# Altium footprint library 28pins_Project_V1I1.PcbLib: 29 footprints (part 2 of 2)
Each footprint in its own frame and in the unit in brackets; x right, y up, seen from the top. Pads: shape width x height; smd on the part's side, far side on the other; paste and mask are expansions set on the pad; w line width, h text height; cw(c..) or ccw(c..) is an arc to the next point about the centre after c.
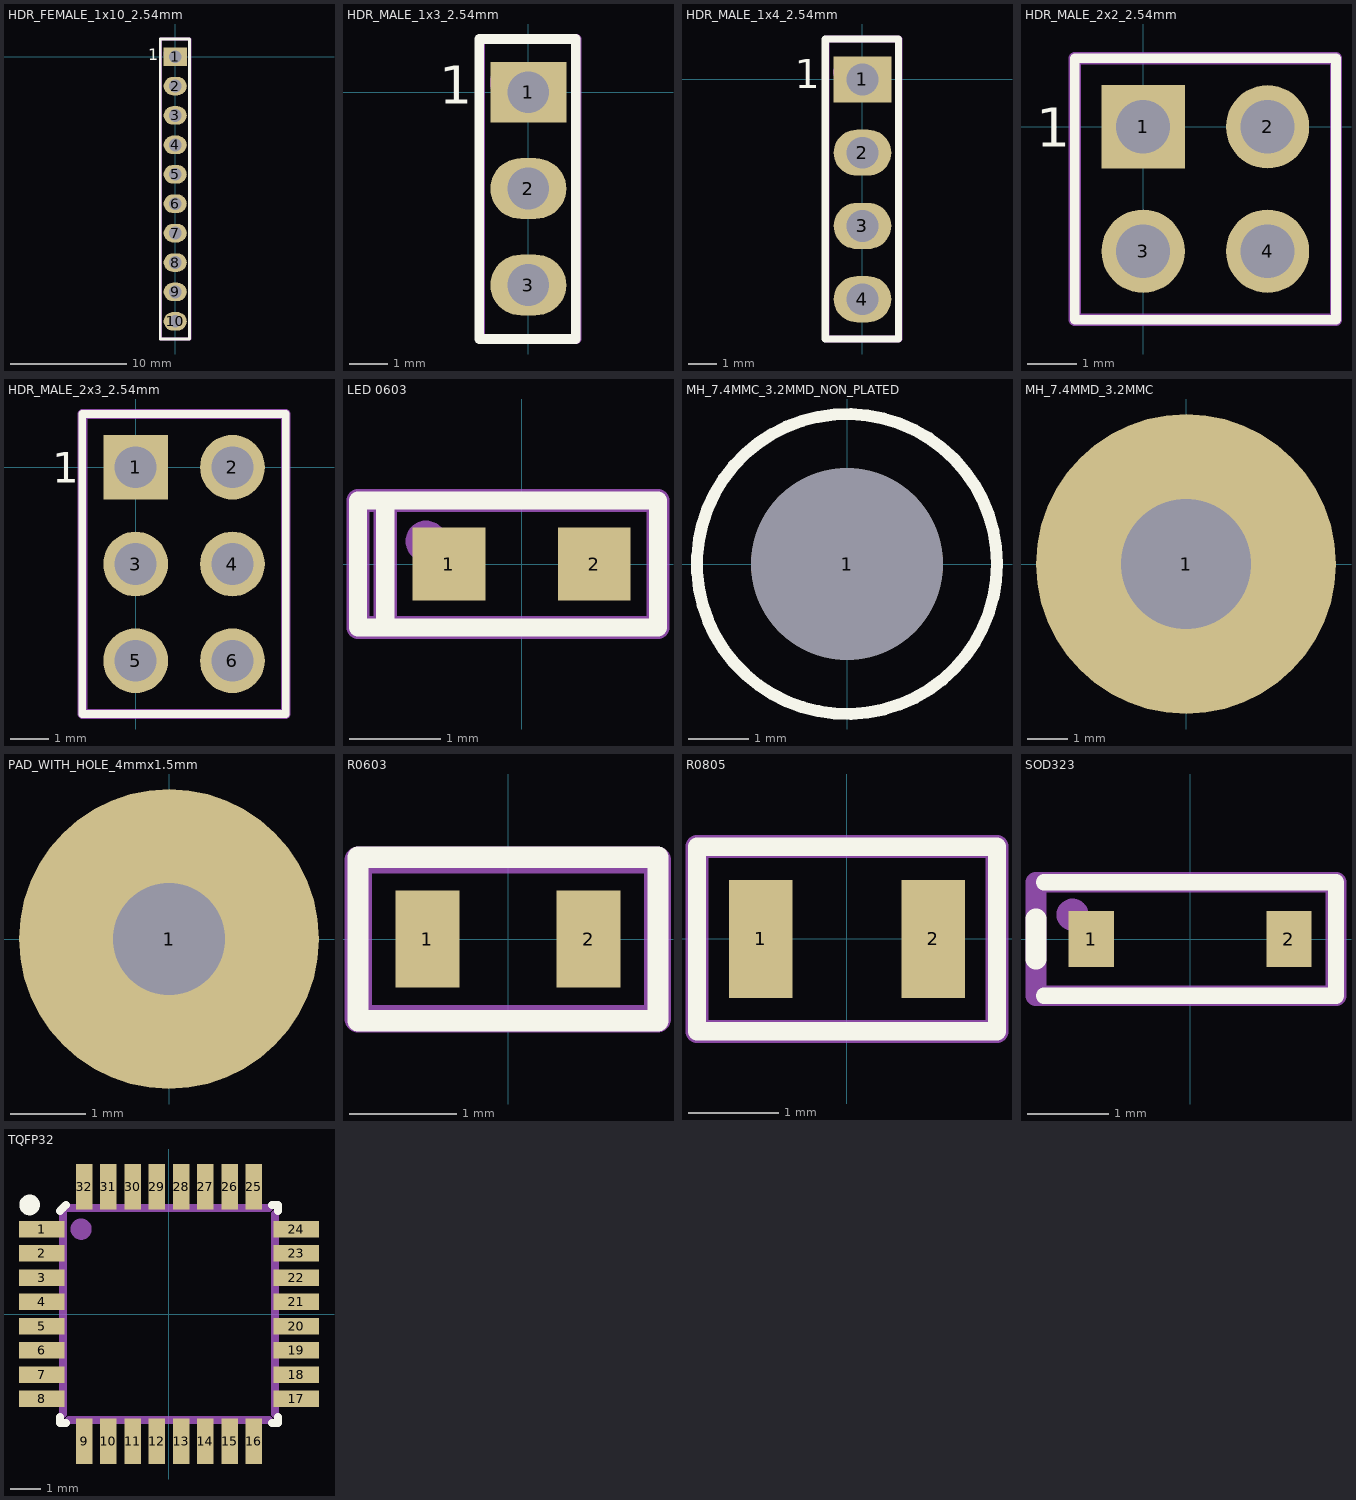
[diagram p1: the footprints below, top view; thin cyan lines are the x and y axes]

## HDR_FEMALE_1x10_2.54mm [mm]
pads (10):
  rect 2x1.6 hole 1.1: 1(0,0)
  oval 2x1.6 hole 1.1: 2(0,-2.54) 3(0,-5.08) 4(0,-7.62) 5(0,-10.16) 6(0,-12.7) 7(0,-15.24) 8(0,-17.78) 9(0,-20.32) 10(0,-22.86)
Top Overlay:
  lines w0.254: -1.29,-24.384 1.25,-24.384 1.25,1.524 -1.29,1.524 -1.29,-24.384
  text "1" at -2.34,-0.308 h1
Mechanical 29:
  circle w0.508: c-0.508,0.254 r0.254
  lines w0.254: -1.27,-24.384 1.27,-24.384 1.27,1.524 -1.27,1.524 -1.27,-24.384
  text ".Designator" at 0.508,-16.51 h1.52
3D body "m20-7821046_asm.stp": height 8.51, standoff -2.99, extent -1.27,-24.384 1.23,1.416

## HDR_MALE_1x3_2.54mm [mm]
pads (3):
  rect 2x1.6 hole 1.1: 1(0,0)
  oval 2x1.6 hole 1.1: 2(0,-2.54) 3(0,-5.08)
Top Overlay:
  lines w0.254: -1.29,-6.5 1.25,-6.5 1.25,1.4 -1.29,1.4 -1.29,-6.5
  text "1" at -2.34,-0.308 h1
Mechanical 29:
  circle w0.508: c-0.508,0.254 r0.254
  lines w0.254: -1.27,-6.5 1.27,-6.5 1.27,1.4 -1.27,1.4 -1.27,-6.5
  text ".Designator" at 0.838,-6.246 h1.52
3D body "m20-9990346_asm.stp": height 5.59, standoff -6.09, extent -1.27,-6.348 1.27,1.272

## HDR_MALE_1x4_2.54mm [mm]
pads (4):
  rect 2x1.6 hole 1.1: 1(0,0)
  oval 2x1.6 hole 1.1: 2(0,-2.54) 3(0,-5.08) 4(0,-7.62)
Top Overlay:
  lines w0.254: -1.29,-9 -1.29,1.4 1.25,1.4 1.25,-9 -1.29,-9
  text "1" at -2.34,-0.308 h1
Mechanical 29:
  circle w0.508: c-0.508,0.254 r0.254
  lines w0.254: -1.27,-9 -1.27,1.4 1.27,1.4 1.27,-9 -1.27,-9
  text ".Designator" at 0.538,-8.546 h1.52
3D body "m20-9990446_asm.stp": height 8.65, standoff -3.03, extent -1.27,-8.86 1.27,1.3

## HDR_MALE_2x2_2.54mm [mm]
pads (4):
  rect 1.7x1.7 hole 1.1: 1(0,0)
  round 1.7 hole 1.1: 2(2.54,0) 3(0,-2.54) 4(2.54,-2.54)
Top Overlay:
  lines w0.2: -1.397,-3.937 3.937,-3.937 3.937,1.397 -1.397,1.397 -1.397,-3.937
  text "1" at -2.186,-0.408 h0.8
Mechanical 29:
  circle w0.4: c-0.381,0.381 r0.254
  lines w0.254: -1.397,-3.937 -1.397,1.397 3.937,1.397 3.937,-3.937 -1.397,-3.937
  text ".Designator" at 1.828,-3.326 h1.52
3D body "961204-6404-XX.stp": height 7.5, standoff -3.8, extent -1.27,-3.77 3.81,1.23

## HDR_MALE_2x3_2.54mm [mm]
pads (6):
  rect 1.7x1.7 hole 1.1: 1(0,0)
  round 1.7 hole 1.1: 2(2.54,0) 3(0,-2.54) 4(2.54,-2.54) 5(0,-5.08) 6(2.54,-5.08)
Top Overlay:
  lines w0.2: -1.397,-6.477 -1.397,1.397 3.937,1.397 3.937,-6.477 -1.397,-6.477
  text "1" at -2.186,-0.408 h0.8
Mechanical 29:
  circle w0.4: c-0.381,0.381 r0.254
  lines w0.254: -1.397,-6.477 3.937,-6.477 3.937,1.397 -1.397,1.397 -1.397,-6.477
  text ".Designator" at 1.778,-5.715 h1.52
3D body "m20-9980346_asm.stp": height 8.05, standoff -3.63, extent -1.27,-6.35 3.81,1.27

## LED 0603 [mm]
pads (2):
  rect 0.8x0.8 smd: 1(-0.8,0) 2(0.8,0)
Top Overlay:
  lines w0.2: -1.5,-0.7 -1.8,-0.7 -1.8,0.7 -1.5,0.7 ; -1.5,-0.7 -1.5,0.7 ; -1.5,-0.7 1.5,-0.7 1.5,-0.35 1.5,0.35 1.5,0.7 -1.5,0.7
Mechanical 29:
  circle w0.254: c-1.05,0.25 r0.1
  lines w0.254: -1.5,-0.6 -1.5,0.7 ; -1.8,-0.7 1.5,-0.7 1.5,0.7 -1.8,0.7 -1.8,-0.7
  text ".Designator" at -1,-0.37 h0.75
3D body "User Library-LED SMD0603.step": height 0.68, standoff 0, extent -0.835,-0.365 0.815,0.36

## MH_7.4MMC_3.2MMD_NON_PLATED [mm]
pads (1):
  round 3.2 hole 3.2 unplated: 1(0,0)
Top Overlay:
  lines w0.2: 2.5,0.007 ccw(c0,0) 2.5,0

## MH_7.4MMD_3.2MMC [mm]
pads (1):
  round 7.4 hole 3.2: 1(0,0)

## PAD_WITH_HOLE_4mmx1.5mm [mm]
pads (1):
  round 4 hole 1.5: 1(0,0)

## R0603 [mm]
pads (2):
  rect 0.6x0.9 smd: 1(-0.75,0) 2(0.75,0)
Top Overlay:
  lines w0.2: -1.397,-0.762 -1.397,0.762 1.397,0.762 1.397,-0.762 -1.397,-0.762
Mechanical 29:
  lines w0.254: -1.394,-0.742 1.392,-0.742 1.392,0.737 -1.394,0.737 -1.394,-0.742
  text ".Designator" at -0.988,-0.333 h0.76
3D body "R0603.step": height 0.85, standoff 0.01, extent -0.75,-0.4 0.85,0.4

## R0805 [mm]
pads (2):
  rect 0.7x1.3 smd: 1(-0.95,0) 2(0.95,0)
Top Overlay:
  lines w0.2: -1.651,-1.016 -1.651,1.016 1.651,1.016 1.651,-1.016 -1.651,-1.016
Mechanical 29:
  lines w0.254: -1.651,-1.016 1.651,-1.016 1.651,1.016 -1.651,1.016 -1.651,-1.016
  text ".Designator" at -1.143,-0.423 h1.02
3D body "User Library-Chip Resistor2.step": height 0.71, standoff 0.01, extent -1,-0.6 1,0.6

## SOD323 [mil]
pads (2):
  rect 22x27 smd: 1(-48,0) 2(48,0)
Top Overlay:
  lines w7.87: -70.87,-27.56 70.87,-27.56 70.87,27.56 -70.87,27.56
  lines w10: -74.8,-9.84 -74.8,9.84
Mechanical 29:
  circle w10: c-57.09,11.81 r2.78
  lines w10: -70.87,27.56 -74.8,27.56 ; -74.8,27.56 70.87,27.56 70.87,-27.56 -74.8,-27.56 -74.8,27.56
  text ".Designator" at -31.5,-11.81 h29.53
3D body "User Library-SOD-323.step": height 43.41, standoff 0, extent -51.17,-26.57 51.19,26.58

## TQFP32 [mm]
pads (32):
  rect 1.5x0.55 smd mask+0.06: 1(-4.2,2.8) 2(-4.2,2) 3(-4.2,1.2) 4(-4.2,0.4) 5(-4.2,-0.4) 6(-4.2,-1.2) 7(-4.2,-2) 8(-4.2,-2.8) 17(4.2,-2.8) 18(4.2,-2) 19(4.2,-1.2) 20(4.2,-0.4) 21(4.2,0.4) 22(4.2,1.2) 23(4.2,2) 24(4.2,2.8)
  rect 0.55x1.5 smd mask+0.06: 9(-2.8,-4.2) 10(-2,-4.2) 11(-1.2,-4.2) 12(-0.4,-4.2) 13(0.4,-4.2) 14(1.2,-4.2) 15(2,-4.2) 16(2.8,-4.2) 25(2.8,4.2) 26(2,4.2) 27(1.2,4.2) 28(0.4,4.2) 29(-0.4,4.2) 30(-1.2,4.2) 31(-2,4.2) 32(-2.8,4.2)
Top Overlay:
  circle w0.4: c-4.6,3.6 r0.141
  lines w0.254: -3.6,-3.4 -3.6,-3.6 -3.4,-3.6 ; -3.5,3.5 -3.6,3.4 -3.4,3.6 ; 3.4,-3.6 3.6,-3.6 3.6,-3.4 ; 3.4,3.6 3.6,3.6 3.6,3.4
Mechanical 29:
  circle w0.5: c-2.9,2.8 r0.1
  lines w0.254: -3.5,-3.3 -3.5,3.5 3.3,3.5 ; -3.3,-3.5 3.3,-3.5 ; 3.5,-3.3 3.5,3.3
  text ".Designator" at -1.746,-0.638 h1.52
3D body "User Library-tqfp32.step": height 1.2, standoff 0, extent -4.599,-4.599 4.6,4.599